# Altium schematic symbol library Misc.SchLib: 6 symbols
Pins are listed as number, name and electrical type; pins without a type are passive.

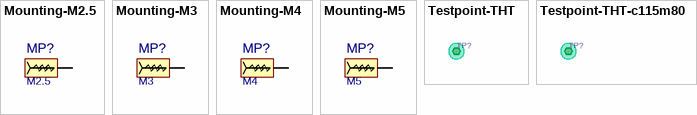
[diagram p0: symbols Mounting-M2.5 to Testpoint-THT-c115m80]

## Mounting-M2.5
designator MP?, comment M2.5  (no BOM)
Mounting Pad M2.5
footprint MISC-SCREW-M2.5 (Mounting hol for M2.5 screw)
pins: 1

## Mounting-M3
designator MP?, comment M3  (no BOM)
Mounting Pad M3
footprint MISC-SCREW-M3.0 (Mounting hol for M3 screw)
pins: 1

## Mounting-M4
designator MP?, comment M4  (no BOM)
Mounting Pad M4
footprint MISC-SCREW-M4.0 (Mounting hol for M4 screw)
pins: 1

## Mounting-M5
designator MP?, comment M5  (no BOM)
Mounting Pad M5
footprint MISC-SCREW-M5.0 (Mounting hol for M5 screw)
pins: 1

## Testpoint-THT
designator TP?, comment TP  (value not drawn)  (no BOM)
Testpoint
footprint MISC-Testpoint-1MM-0.5MM (Testpoint only for testing)
pins: 1

## Testpoint-THT-c115m80
designator TP?  (no BOM)
Testpoint
footprint MISC-Testpoint-c115m80 (Testpoint only for testing. Suitable for 2.00mm pin header)
pins: 1